# EAGLE library part 5-PIN-MOLEX (library Nick's Personal Part)
Molex Micro-Lock Plus 5 pins Digikey: 5055680571
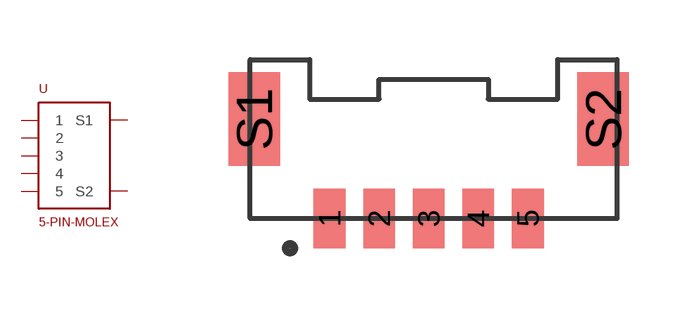
[diagram p2: symbol with the pads of 5_PIN_MICROLOCKPLUS; footprint 5_PIN_MICROLOCKPLUS]

Designator prefix -

## 5-PIN-MOLEX  [5_PIN_MICROLOCKPLUS]
1  1
2  2
3  3
4  4
5  5
S1  S1
S2  S2

## Footprint 5_PIN_MICROLOCKPLUS (pad centres in mm)
smd 0.8 x 1.5: 1 0,0; 2 1.25,0; 3 2.5,0; 4 3.75,0; 5 5,0
smd 1.3 x 2.35: S1 -1.9,2.5; S2 6.9,2.5